# EAGLE library part SHUNT3 (library Shunt2)
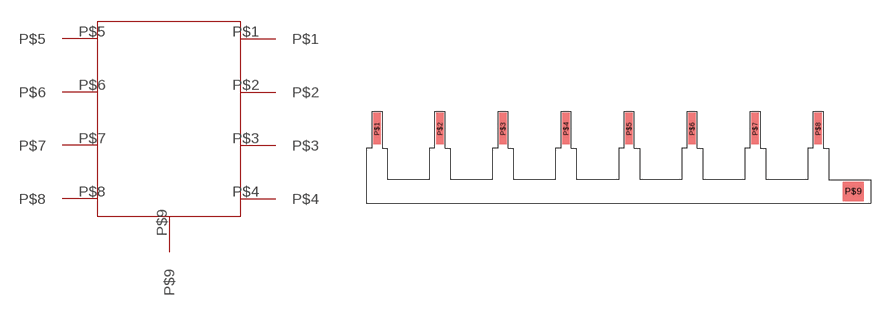
[diagram p1: symbol with the pads of SHUNT3; footprint SHUNT3]

Designator prefix -

## SHUNT3  [SHUNT3]
P$1  P$1
P$2  P$2
P$3  P$3
P$4  P$4
P$5  P$5
P$6  P$6
P$7  P$7
P$8  P$8
P$9  P$9

## Footprint SHUNT3 (pad centres in mm)
smd 1.4 x 6: P$1 -85,-3.3; P$2 -73,-3.3; P$3 -61,-3.3; P$4 -49,-3.3; P$5 -37,-3.3; P$6 -25,-3.3; P$7 -13,-3.3; P$8 -1,-3.3
smd 4 x 3.8: P$9 5.7,-15.25